# EAGLE library part DMG4822SSD (library KVB-transistors)
MOSFET 2N-CH 30V 10A 8SO
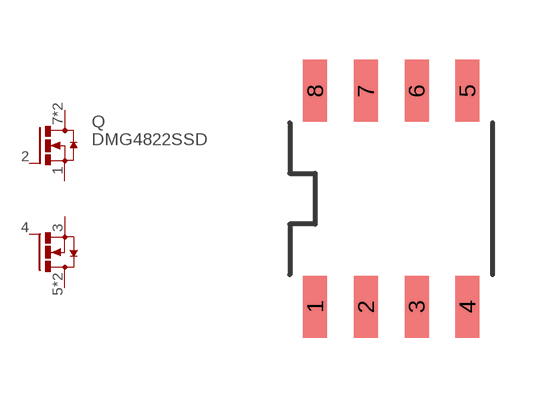
[diagram p0: symbol with the pads of DMG4822SSD; footprint DMG4822SSD]

Designator prefix Q

## DMG4822SSD (MAN-PART_NUM: DMG4822SSD; MANUFACTURER: Diodes Inc.)  [DMG4822SSD]
1  S  pas
2  G  pas
3  S1  pas
4  G1  pas
5  D1  pas
6  D1  pas
7  D  pas
8  D  pas

## Footprint DMG4822SSD (pad centres in mm)
smd 0.6 x 1.55: 1 -1.905,-2.7; 2 -0.635,-2.7; 3 0.635,-2.7; 4 1.905,-2.7; 5 1.905,2.7; 6 0.635,2.7; 7 -0.635,2.7; 8 -1.905,2.7